# Altium footprint library FH12-16S-1SH(55).PcbLib: 1 footprints
Each footprint in its own frame and in the unit in brackets; x right, y up, seen from the top. Pads: shape width x height; smd on the part's side, far side on the other; paste and mask are expansions set on the pad; w line width, h text height; cw(c..) or ccw(c..) is an arc to the next point about the centre after c.
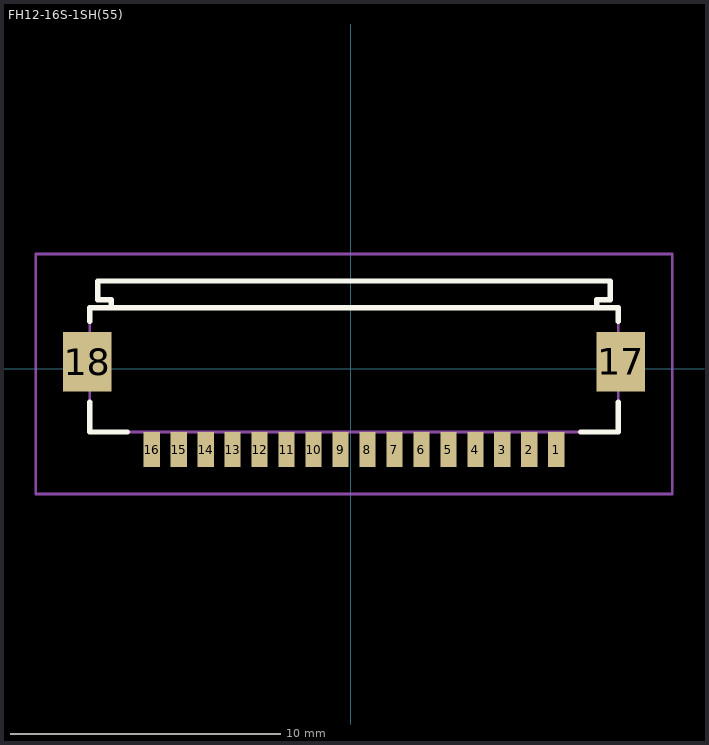
[diagram p0: the footprint, top view; thin cyan lines are the x and y axes]

## FH12-16S-1SH(55) [mm] "FH12-16S-1SH(55)"
pads (18):
  rect 0.6x1.3 smd: 1(7.627,-2.998) 2(6.627,-2.998) 3(5.627,-2.998) 4(4.627,-2.998) 5(3.627,-2.998) 6(2.627,-2.998) 7(1.627,-2.998) 8(0.627,-2.998) 9(-0.373,-2.998) 10(-1.373,-2.998) 11(-2.373,-2.998) 12(-3.373,-2.998) 13(-4.373,-2.998) 14(-5.373,-2.998) 15(-6.373,-2.998) 16(-7.373,-2.998)
  rect 1.8x2.2 smd: 17(10.027,0.252) 18(-9.773,0.252)
Top Overlay:
  lines w0.2: -9.673,-1.248 -9.673,-2.348 -8.273,-2.348 ; -9.673,1.752 -9.673,2.252 9.927,2.252 9.927,1.752 ; -8.873,2.252 -8.873,2.552 -9.373,2.552 -9.373,3.252 9.627,3.252 9.627,2.552 9.127,2.552 9.127,2.252 ; 8.527,-2.348 9.927,-2.348 9.927,-1.248
Mechanical 13:
  lines w0.1: -8.873,2.252 -8.873,2.552 -9.373,2.552 -9.373,3.252 9.627,3.252 9.627,2.552 9.127,2.552 9.127,2.252 ; -9.673,-2.348 -9.673,2.252 9.927,2.252 9.927,-2.348 -9.673,-2.348
Mechanical 15:
  lines w0.1: -11.673,-4.648 -11.673,4.252 11.927,4.252 11.927,-4.648 -11.673,-4.648
3D body "FH12-16S-1SH(55)--3DModel-STEP-1.STEP": height 2.04, standoff -0.06, extent -10.231,-3.251 10.37,3.149